# Altium schematic symbol library EEUEB1V102B.SchLib: 1 symbol
Pins are listed as number, name and electrical type; pins without a type are passive.

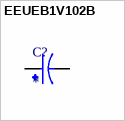
[diagram p0: symbol EEUEB1V102B]

## EEUEB1V102B
designator C?
Cap Aluminum 1000uF 35V 20% (12.5 X 25mm) Radial 5mm 586mA 10000 hr 105C Ammo Pack; MP: EEU-EB1V102B; MF: Panasonic; Check_prices: https://www.snapeda.com/parts/EEU-EB1V102B/Panasonic/view-part/?ref=eda; Package: RADIAL-2 Panasonic; SnapEDA_Link: https://www.snapeda.com/parts/EEU-EB1V102B/Panasonic/view-part/?ref=snap; Value: *; Purchase-URL: https://pricing.snapeda.com/search/part/EEU-EB1V102B/?ref=eda; Price: None; Availability: In Stock
footprint CAPPRD500W60D1250H2500
pins: N, P